# EAGLE library part RFM12B (library SWP)
The RFM12B is a great inexpensive option for wireless communication; it's an ISM band FSK transceiver module implemented with a unique PLL. These modules operate in the 434MHZ band and fully comply with FCC and ETSI regulations. This module has a wide voltage supply range of 2.2-3.8VDC. An SPI interface is used to send data and configure the RFM12 module. The configuration commands, described in the RF12 IC Datasheet linked below, can be used to set the data rate, frequency band, wake-up timer, transfer data, receive data from the 16-bit FIFO, and much more. Features: Low-cost, high-performance SPI compatible interface High data rate (up to 115.2 kbps in digital mode) Wakeup timer 2.2V-3.8V power supply Analog and digital RSSI outputs Differential antenna input Automatic antenna tuning 16-bit RX data FIFO PLL and zero IF technology Fast PLL lock time High resolution PLL with 2.5KHz step Programmable TX frequency deviation (from 15 to 240 kHz) Programmable receiver bandwidth (from 67 to 400 kHz) Analog and digital signal strength indicator Internal data filtering and clock recovery Clock and reset signal output for external MCU use 10MHz crystal for PLL timing Dimensions: 15.9 x 16.1 mm (0.626 x 0.634 in)
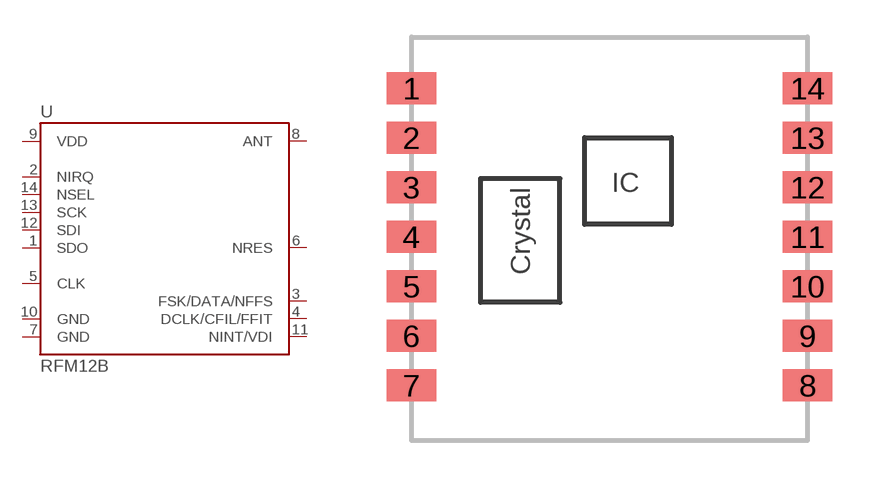
[diagram p0: symbol with the pads of RFM12SMD; footprint RFM12SMD]

Designator prefix -

## RFM12BSMD  [RFM12SMD]
1  SDO  out
2  NIRQ  out
3  FSK/DATA/NFFS
4  DCLK/CFIL/FFIT
5  CLK  out
6  NRES
7  GND  pwr
8  ANT
9  VDD  pwr
10  GND  pwr
11  NINT/VDI
12  SDI  in
13  SCK  in
14  NSEL  in

## Footprint RFM12SMD (pad centres in mm)
smd 2 x 1.3: 1 -8,5.73; 2 -8,3.73; 3 -8,1.73; 4 -8,-0.27; 5 -8,-2.27; 6 -8,-4.27; 7 -8,-6.27; 8 8,-6.27; 9 8,-4.27; 10 8,-2.27; 11 8,-0.27; 12 8,1.73; 13 8,3.73; 14 8,5.73